# EAGLE library part 74HCT08 (library GadgetFactory_v1)
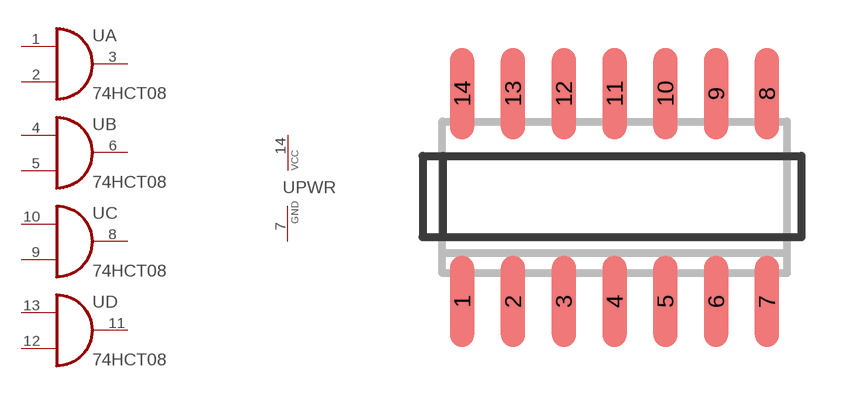
[diagram p62: symbol with the pads of SO14; footprint SO14]

Designator prefix U; gates A=2AND B=2AND C=2AND D=2AND PWR=VCC-GND

## 74HCT08D  [SO14]
1  A:I0  in
2  A:I1  in
3  A:O  out
4  B:I0  in
5  B:I1  in
6  B:O  out
7  PWR:GND  pas
8  C:O  out
9  C:I1  in
10  C:I0  in
11  D:O  out
12  D:I1  in
13  D:I0  in
14  PWR:VCC  pwr

## Footprint SO14 (pad centres in mm)
Small Outline Package 14
smd 0.6 x 2.286: 1 -3.81,-2.6; 2 -2.54,-2.6; 3 -1.27,-2.6; 4 0,-2.6; 5 1.27,-2.6; 6 2.54,-2.6; 7 3.81,-2.6; 8 3.81,2.6; 9 2.54,2.6; 10 1.27,2.6; 11 0,2.6; 12 -1.27,2.6; 13 -2.54,2.6; 14 -3.81,2.6